# EAGLE library part PIC18F14K50 (library xess)
Microchip PIC 18F14K50 Microcontroller
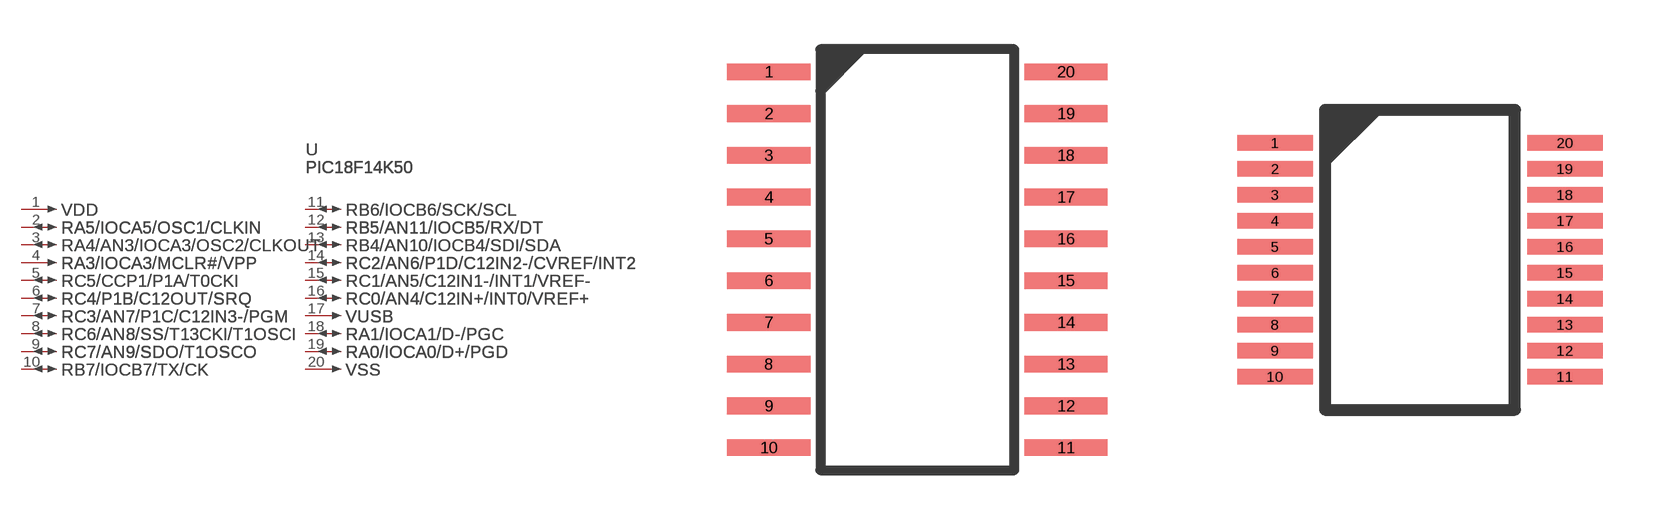
[diagram p127: symbol with the pads of MICROCHIP-20_SOIC; footprints MICROCHIP-20_SOIC, MICROCHIP-20_SSOP]

Designator prefix U; gates PART=PV_GATE VDD=PIN_GATE_IN RA5/IOCA5/OSC1/CLKIN=PIN_GATE_IO RA4/AN3/IOCA3/OSC2/CLKOUT=PIN_GATE_IO RA3/IOCA3/MCLR#/VPP=PIN_GATE_IN RC5/CCP1/P1A/T0CKI=PIN_GATE_IO RC4/P1B/C12OUT/SRQ=PIN_GATE_IO RC3/AN7/P1C/C12IN3-/PGM=PIN_GATE_IO RC6/AN8/SS/T13CKI/T1OSCI=PIN_GATE_IO RC7/AN9/SDO/T1OSCO=PIN_GATE_IO RB7/IOCB7/TX/CK=PIN_GATE_IO RB6/IOCB6/SCK/SCL=PIN_GATE_IO RB5/AN11/IOCB5/RX/DT=PIN_GATE_IO RB4/AN10/IOCB4/SDI/SDA=PIN_GATE_IO RC2/AN6/P1D/C12IN2-/CVREF/INT2=PIN_GATE_IO RC1/AN5/C12IN1-/INT1/VREF-=PIN_GATE_IO RC0/AN4/C12IN+/INT0/VREF+=PIN_GATE_IO VUSB=PIN_GATE_IN RA1/IOCA1/D-/PGC=PIN_GATE_IO RA0/IOCA0/D+/PGD=PIN_GATE_IO VSS=PIN_GATE_IN

## PIC18F14K50-I/SO (DIGIKEY#: PIC18F14K50-I/SO-ND; MANF: Microchip; MANF#: PIC18F14K50-I/SO; MOUSER#: 579-PIC18F14K50-I/SO)  [MICROCHIP-20_SOIC]
1  VDD:1  in
2  RA5/IOCA5/OSC1/CLKIN:1
3  RA4/AN3/IOCA3/OSC2/CLKOUT:1
4  RA3/IOCA3/MCLR#/VPP:1  in
5  RC5/CCP1/P1A/T0CKI:1
6  RC4/P1B/C12OUT/SRQ:1
7  RC3/AN7/P1C/C12IN3-/PGM:1
8  RC6/AN8/SS/T13CKI/T1OSCI:1
9  RC7/AN9/SDO/T1OSCO:1
10  RB7/IOCB7/TX/CK:1
11  RB6/IOCB6/SCK/SCL:1
12  RB5/AN11/IOCB5/RX/DT:1
13  RB4/AN10/IOCB4/SDI/SDA:1
14  RC2/AN6/P1D/C12IN2-/CVREF/INT2:1
15  RC1/AN5/C12IN1-/INT1/VREF-:1
16  RC0/AN4/C12IN+/INT0/VREF+:1
17  VUSB:1  in
18  RA1/IOCA1/D-/PGC:1
19  RA0/IOCA0/D+/PGD:1
20  VSS:1  in

## PIC18F14K50-I/SS (DIGIKEY#: PIC18F14K50-I/SS-ND; MANF: Microchip; MANF#: PIC18F14K50-I/SS; MOUSER#: 579-PIC18F14K50-I/SS)  [MICROCHIP-20_SSOP]
Pads as for MICROCHIP-20_SOIC

## PIC18F14K50-I/P (DIGIKEY#: PIC18F14K50-I/P-ND; MANF: Microchip; MANF#: PIC18F14K50-I/P; MOUSER#: 579-PIC18F14K50-I/P)  [MICROCHIP-20_PDIP]
Pads as for MICROCHIP-20_SOIC

## Footprint MICROCHIP-20_SOIC (pad centres in mm)
Microchip 20-Lead Plastic Small Outline Package
smd 2.53 x 0.51: 1 0,0; 2 0,-1.27; 3 0,-2.54; 4 0,-3.81; 5 0,-5.08; 6 0,-6.35; 7 0,-7.62; 8 0,-8.89; 9 0,-10.16; 10 0,-11.43; 11 9.03,-11.43; 12 9.03,-10.16; 13 9.03,-8.89; 14 9.03,-7.62; 15 9.03,-6.35; 16 9.03,-5.08; 17 9.03,-3.81; 18 9.03,-2.54; 19 9.03,-1.27; 20 9.03,0

## Footprint MICROCHIP-20_SSOP (pad centres in mm)
Microchip 20-Lead Plastic Shrink Small Outline Package
smd 1.89 x 0.38: 1 0,0; 2 0,-0.65; 3 0,-1.3; 4 0,-1.95; 5 0,-2.6; 6 0,-3.25; 7 0,-3.9; 8 0,-4.55; 9 0,-5.2; 10 0,-5.85; 11 7.25,-5.85; 12 7.25,-5.2; 13 7.25,-4.55; 14 7.25,-3.9; 15 7.25,-3.25; 16 7.25,-2.6; 17 7.25,-1.95; 18 7.25,-1.3; 19 7.25,-0.65; 20 7.25,0

## Footprint MICROCHIP-20_PDIP (pad centres in mm)
Microchip 20-Lead Plastic Dual In-Line 300 mil Package
drill 0.711 pad 1.27 round: 1 0,0; 2 0,-2.54; 3 0,-5.08; 4 0,-7.62; 5 0,-10.16; 6 0,-12.7; 7 0,-15.24; 8 0,-17.78; 9 0,-20.32; 10 0,-22.86; 11 7.62,-22.86; 12 7.62,-20.32; 13 7.62,-17.78; 14 7.62,-15.24; 15 7.62,-12.7; 16 7.62,-10.16; 17 7.62,-7.62; 18 7.62,-5.08; 19 7.62,-2.54; 20 7.62,0